# Altium schematic symbol library TPS84250RKGR.SchLib: 1 symbol
Pins are listed as number, name and electrical type; pins without a type are passive.

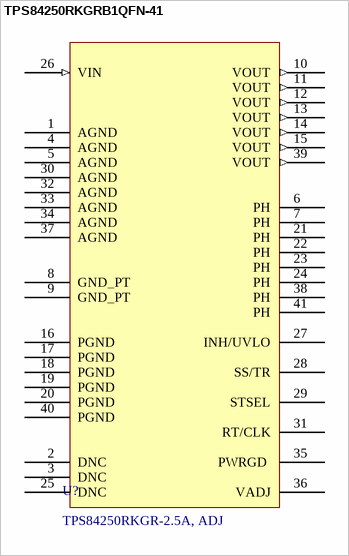
[diagram p0: symbol TPS84250RKGRB1QFN-41]

## TPS84250RKGRB1QFN-41
designator U?, comment TPS84250RKGR-2.5A, ADJ
Switching Voltage Regulators, 2.5V to 15V output; Manufacturer: Texas Instruments; Voltage Input Maximum: 50V; Voltage Input Minimum: 7V; Voltage Output: 2.5-15 V; Current Output Maximum: 2.5 A; Package / Case: B1QFN-41; ComponentLink2Description: Datasheet; ComponentLink2URL: http://www.ti.com/lit/ds/symlink/tps84250.pdf; Supplier 1 URL: https://www.mouser.com/ProductDetail/Texas-Instruments/TPS84250RKGR?qs=4whTb%2F0XQMjhZkugPH%2FKDw%3D%3D; Supplier 2 URL: https://www.digikey.com/en/products/detail/texas-instruments/TPS84250RKGR/3661876; Supplier 3 URL: N/A; Value: TPS84250RKGR-2.5A, ADJ; Manufacturer Part Number: TPS84250RKGR; Mount: SMD/SMT; Operating Temperature Max: + 85 C; Operating Temperature Min: - 40 C; Packaging: Tape and Reel; Supplier 1: Mouser; Supplier 1 Part Number: 595-TPS84250RKGR; Supplier 2: Digi-Key; Supplier 2 Part Number: 296-34944-2-ND; Supplier 3: thegioiic; Supplier 3 Part Number: N/A
footprint TPS84250RKGR
pins: 1 AGND, 2 DNC, 3 DNC, 4 AGND, 5 AGND, 6 PH, 7 PH, 8 GND_PT, 9 GND_PT, 10 VOUT (out), 11 VOUT (out), 12 VOUT (out), 13 VOUT (out), 14 VOUT (out), 15 VOUT (out), 16 PGND, 17 PGND, 18 PGND, 19 PGND, 20 PGND, 21 PH, 22 PH, 23 PH, 24 PH, 25 DNC, 26 VIN (in), 27 INH/UVLO, 28 SS/TR, 29 STSEL, 30 AGND, 31 RT/CLK, 32 AGND, 33 AGND, 34 AGND, 35 PWRGD , 36 VADJ, 37 AGND, 38 PH, 39 VOUT (out), 40 PGND, 41 PH